# Altium footprint library lib.PcbLib: 43 footprints (part 1 of 3)
Each footprint in its own frame and in the unit in brackets; x right, y up, seen from the top. Pads: shape width x height; smd on the part's side, far side on the other; paste and mask are expansions set on the pad; w line width, h text height; cw(c..) or ccw(c..) is an arc to the next point about the centre after c.
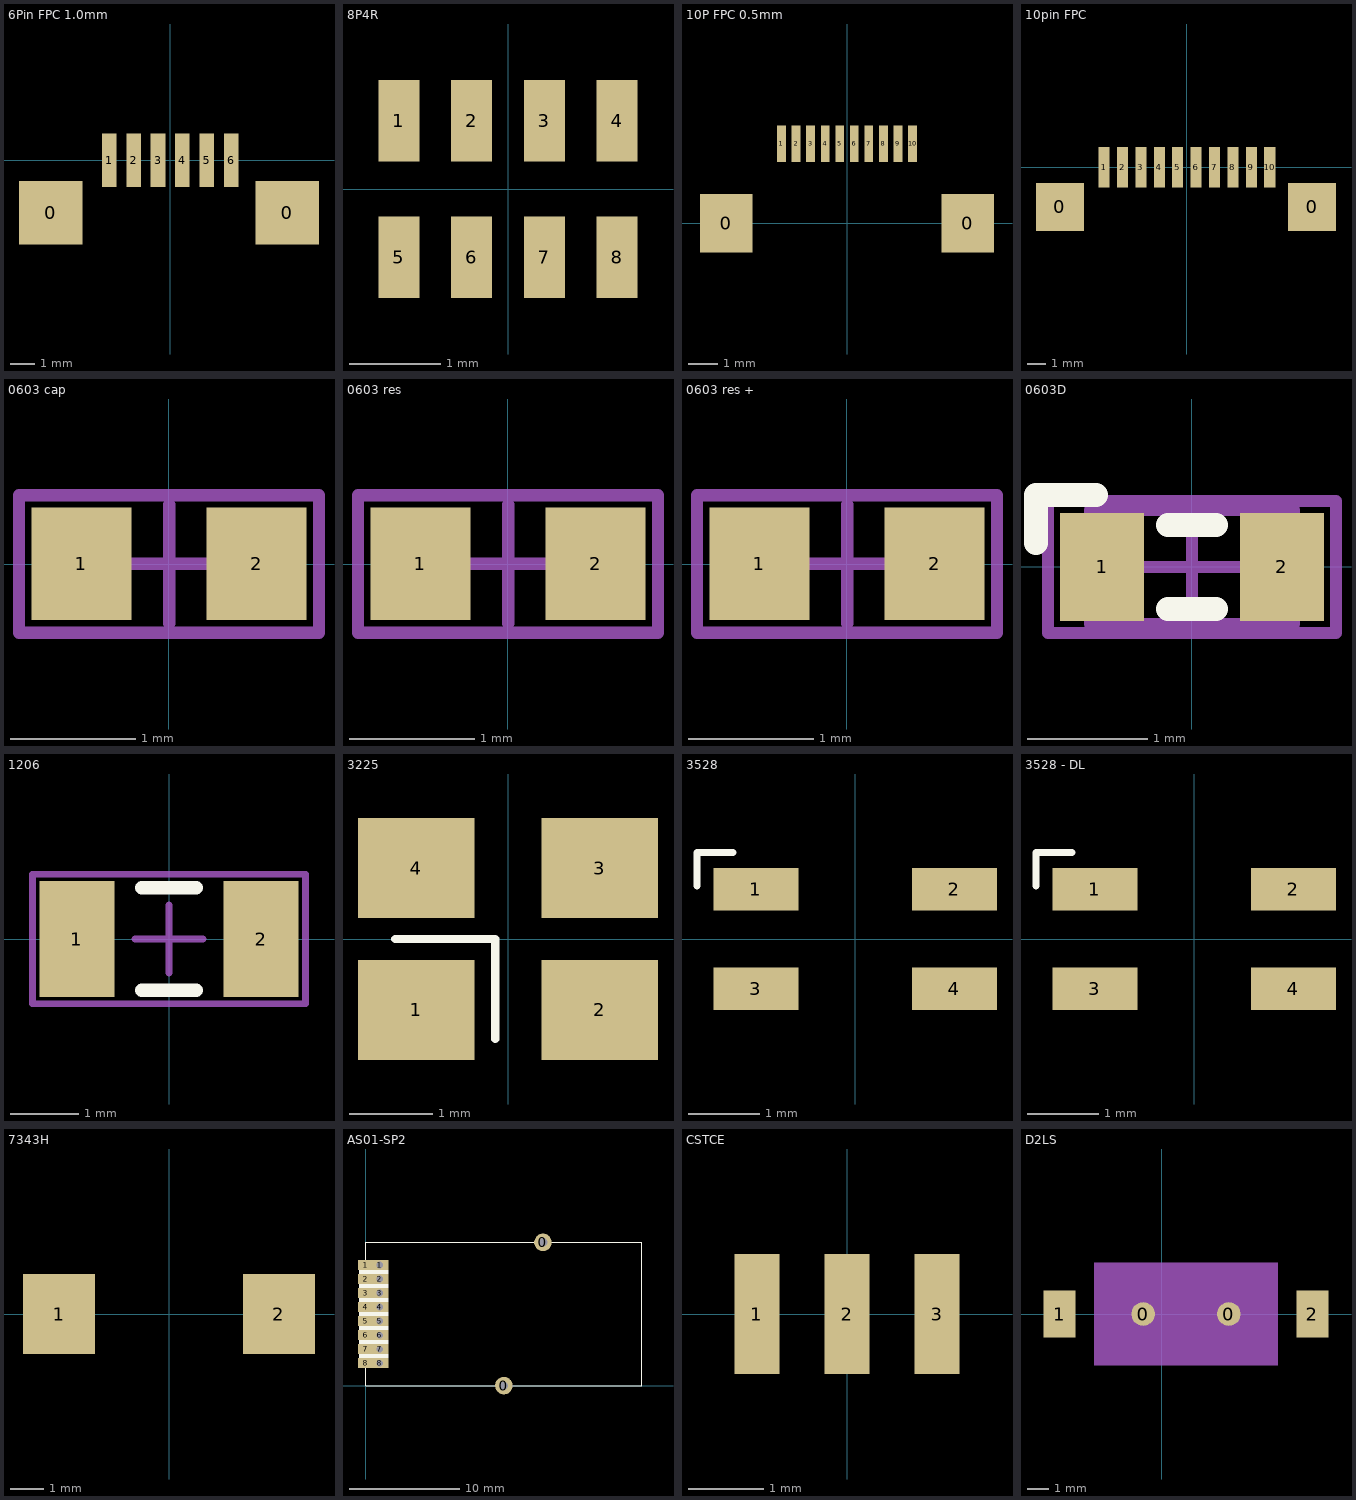
[diagram p0: the footprints below, top view; thin cyan lines are the x and y axes]

## 6Pin FPC 1.0mm [mm]
pads (8):
  rect 2.6x2.6 smd: 0(-4.9,-2.15) 0(4.8,-2.15)
  rect 0.6x2.2 smd: 1(-2.5,0) 2(-1.5,0) 3(-0.5,0) 4(0.5,0) 5(1.5,0) 6(2.5,0)
3D body "FPC_6pins_1mm v5.step": height 2, standoff 0, extent -5.1,-5.95 5.1,0.95

## 8P4R [mm]
pads (8):
  rect 0.45x0.9 smd: 1(-1.2,0.75) 2(-0.4,0.75) 3(0.4,0.75) 4(1.2,0.75) 5(-1.2,-0.75) 6(-0.4,-0.75) 7(0.4,-0.75) 8(1.2,-0.75)
3D body "YC164_RESPACK.stp": height 0.61, standoff 0, extent -1.6,-0.8 1.6,0.8

## 10P FPC 0.5mm [mm]
pads (12):
  rect 1.8x2 smd: 0(-4.15,0) 0(4.15,0)
  rect 0.3x1.25 smd: 1(-2.25,2.725) 2(-1.75,2.725) 3(-1.25,2.725) 4(-0.75,2.725) 5(-0.25,2.725) 6(0.25,2.725) 7(0.75,2.725) 8(1.25,2.725) 9(1.75,2.725) 10(2.25,2.725)
3D body "FPC_10P_0.5mm v3.step": height 2.13, standoff 0, extent -4.7,-2.475 4.7,3.325

## 10pin FPC [mm]
pads (12):
  rect 2.6x2.6 smd: 0(-6.9,-2.15) 0(6.8,-2.15)
  rect 0.6x2.2 smd: 1(-4.5,0) 2(-3.5,0) 3(-2.5,0) 4(-1.5,0) 5(-0.5,0) 6(0.5,0) 7(1.5,0) 8(2.5,0) 9(3.5,0) 10(4.5,0)
3D body: height 0.25, standoff 0, extent -8.2,-0.85 -8.2,-0.85
3D body: height 0.25, standoff 0, extent 7.75,-1.25 7.75,-1.25
3D body: height 0.25, standoff 0, extent -8.2,-6.85 8.1,-0.85

## 0603 cap [mm]
pads (2):
  rect 0.8x0.9 smd: 1(-0.7,0) 2(0.7,0)
Mechanical 15:
  lines w0.1: -0.475,0 0.475,0 ; 0,-0.475 0,0.475 ; -1.2,-0.55 1.2,-0.55 1.2,0.55 -1.2,0.55 -1.2,-0.55
3D body "C0603_060.step": height 0.6, standoff 0, extent -0.8,-0.4 0.8,0.4

## 0603 res [mm]
pads (2):
  rect 0.8x0.9 smd: 1(-0.7,0) 2(0.7,0)
Mechanical 15:
  lines w0.1: -0.475,0 0.475,0 ; 0,-0.475 0,0.475 ; -1.2,-0.55 1.2,-0.55 1.2,0.55 -1.2,0.55 -1.2,-0.55
3D body "res_0603.stp": height 0.6, standoff 0, extent -0.8,-0.425 0.8,0.425

## 0603 res + [mm] "with 0805 model"
pads (2):
  rect 0.8x0.9 smd: 1(-0.7,0) 2(0.7,0)
Mechanical 15:
  lines w0.1: -0.475,0 0.475,0 ; 0,-0.475 0,0.475 ; -1.2,-0.55 1.2,-0.55 1.2,0.55 -1.2,0.55 -1.2,-0.55
3D body "res_0805.stp": height 0.65, standoff 0, extent -1,-0.6 1,0.6

## 0603D [mm]
pads (2):
  rect 0.7x0.9 smd: 1(-0.75,0) 2(0.75,0)
Top Overlay:
  lines w0.2: -1.3,0.2 -1.3,0.6 -0.8,0.6 ; -0.2,-0.35 0.2,-0.35 ; -0.2,0.35 0.2,0.35
Mechanical 13:
  lines w0.1: -0.85,-0.475 0.85,-0.475 0.85,0.475 -0.85,0.475 -0.85,-0.475
Mechanical 15:
  lines w0.1: -0.475,0 0.475,0 ; 0,-0.475 0,0.475 ; -1.2,-0.55 1.2,-0.55 1.2,0.55 -1.2,0.55 -1.2,-0.55
3D body: height 0.9, standoff 0, extent -0.85,-0.475 0.85,0.475

## 1206 [mm]
height 1.3
pads (2):
  rect 1.1x1.7 smd: 1(-1.35,0) 2(1.35,0)
Top Overlay:
  lines w0.2: -0.4,-0.75 0.4,-0.75 ; -0.4,0.75 0.4,0.75
Mechanical 15:
  lines w0.1: -0.5,0 0.5,0 ; 0,-0.5 0,0.5 ; -2,-0.95 2,-0.95 2,0.95 -2,0.95 -2,-0.95
3D body "res_1206.stp": height 0.7, standoff 0, extent -1.6,-0.8 1.6,0.8

## 3225 [mm]
pads (4):
  rect 1.4x1.2 smd: 1(-1.1,-0.85) 2(1.1,-0.85) 3(1.1,0.85) 4(-1.1,0.85)
Top Overlay:
  lines w0.1: -1.352,0 -0.152,0 ; -0.152,-1.2 -0.152,-0.025
3D body "User Library-3225-1.step": height 0.61, standoff 0, extent -1.6,-1.245 1.6,1.255

## 3528 [mm]
height 5
pads (4):
  rect 1.2x0.6 smd: 1(-1.4,0.7) 2(1.4,0.7) 3(-1.4,-0.7) 4(1.4,-0.7)
Top Overlay:
  lines w0.1: -2.232,0.747 -2.232,1.222 ; -2.222,1.222 -1.727,1.222

## 3528 - DL [mm]
height 5
pads (4):
  rect 1.2x0.6 all layers, no hole: 1(-1.4,0.7) 3(-1.4,-0.7) 4(1.4,-0.7)
  rect 1.2x0.6 smd: 2(1.4,0.7)
Top Overlay:
  lines w0.1: -2.232,0.747 -2.232,1.222 ; -2.222,1.222 -1.727,1.222

## 7343H [mm]
height 4
pads (2):
  rect 2.16x2.41 smd: 1(-3.3,0) 2(3.3,0)

## AS01-SP2 [mm]
height 2.5
pads (18):
  round 1.6 hole 0.8: 0(12.52,0) 0(16.07,13)
  rect 1.4x0.9 smd: 1(0,10.94) 2(0,9.67) 3(0,8.4) 4(0,7.13) 5(0,5.86) 6(0,4.59) 7(0,3.32) 8(0,2.05)
  rect 1.6x0.9 hole 0.6: 1(1.27,10.94) 2(1.27,9.67) 3(1.27,8.4) 4(1.27,7.13) 5(1.27,5.86) 6(1.27,4.59) 7(1.27,3.32) 8(1.27,2.05)
Top Overlay:
  region: -0.6,10.48 -0.6,10.13 2.07,10.13 2.07,10.48
  region: -0.6,9.21 -0.6,8.86 2.07,8.86 2.07,9.21
  region: -0.6,7.94 -0.6,7.59 2.07,7.59 2.07,7.94
  region: -0.6,6.67 -0.6,6.32 2.07,6.32 2.07,6.67
  region: -0.6,5.4 -0.6,5.05 2.07,5.05 2.07,5.4
  region: -0.6,4.13 -0.6,3.78 2.07,3.78 2.07,4.13
  region: -0.6,2.86 -0.6,2.51 2.07,2.51 2.07,2.86
  lines w0.1: 0.02,0 25.02,0 25.02,13 0.02,13 0.02,0
Bottom Overlay:
  region: -0.6,10.48 -0.6,10.13 2.07,10.13 2.07,10.48
  region: -0.6,9.21 -0.6,8.86 2.07,8.86 2.07,9.21
  region: -0.6,7.94 -0.6,7.59 2.07,7.59 2.07,7.94
  region: -0.6,6.67 -0.6,6.32 2.07,6.32 2.07,6.67
  region: -0.6,5.4 -0.6,5.05 2.07,5.05 2.07,5.4
  region: -0.6,4.13 -0.6,3.78 2.07,3.78 2.07,4.13
  region: -0.6,2.86 -0.6,2.51 2.07,2.51 2.07,2.86
Multi-Layer:
  pour cut-out: 17,14 17,-1 26.5,-1 26.5,14

## CSTCE [mm]
pads (3):
  rect 0.6x1.6 smd: 1(-1.2,0) 2(0,0) 3(1.2,0)
3D body "CSTCE.step": height 0.9, standoff 0, extent -1.6,-0.65 1.6,0.65

## D2LS [mm]
pads (4):
  round 1.1 all layers, no hole paste+0 mask+0: 0(-0.86,0) 0(3.14,0)
  rect 1.5x2.2 smd: 1(-4.76,0) 2(7.04,0)
Mechanical 1:
  rectangle: -3.16,-2.4 5.44,2.4
3D body: height 0.25, standoff 0, extent 0,0 0,0
3D body: height 3, standoff 0, extent -3.16,-2.4 5.44,2.4